# Altium integrated library EEEFT1E102UV.IntLib: 1 symbol
Pins are listed as number, name and electrical type; pins without a type are passive.

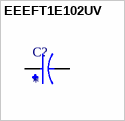
[diagram p0: symbol EEEFT1E102UV]

## EEEFT1E102UV
designator C?
КРЫШКА КЛЮЧЕВАЯ 1000 мкФ 20% 25 В для поверхностного монтажа; MP: EEE-FT1E102UV; MF: Panasonic Electronic Components
footprint CAP_EEEFT1E102UV
pins: 1, 2